# EAGLE library part PA_NUCLEO_BRD (library PatternAgents-Boards)
PatternAgents Nucleo Board Pattern Source LBR : http://www.patternagents.com Github : https://github.com/patternagents License : http://creativecommons.org/licenses/by-sa/4.0/ (Creative Commons 4.0) THIS SOFTWARE IS PROVIDED BY THE CONTRIBUTORS "AS IS" AND WITHOUT ANY EXPRESS OR IMPLIED WARRANTIES, INCLUDING, BUT NOT LIMITED TO, THE IMPLIED WARRANTIES OF MERCHANTABILITY AND FITNESS FOR A PARTICULAR PURPOSE ARE DISCLAIMED. IN NO EVENT SHALL THE COPYRIGHT OWNER OR CONTRIBUTORS BE LIABLE FOR ANY DIRECT, INDIRECT, INCIDENTAL, SPECIAL, EXEMPLARY, OR CONSEQUENTIAL DAMAGES (INCLUDING, BUT NOT LIMITED TO, PROCUREMENT OF SUBSTITUTE GOODS OR SERVICES; LOSS OF USE, DATA, OR PROFITS; OR BUSINESS INTERRUPTION) HOWEVER CAUSED AND ON ANY THEORY OF LIABILITY, WHETHER IN CONTRACT, STRICT LIABILITY, OR TORT (INCLUDING NEGLIGENCE OR OTHERWISE) ARISING IN ANY WAY OUT OF THE USE OF THIS SOFTWARE, EVEN IF ADVISED OF THE POSSIBILITY OF SUCH DAMAGE.
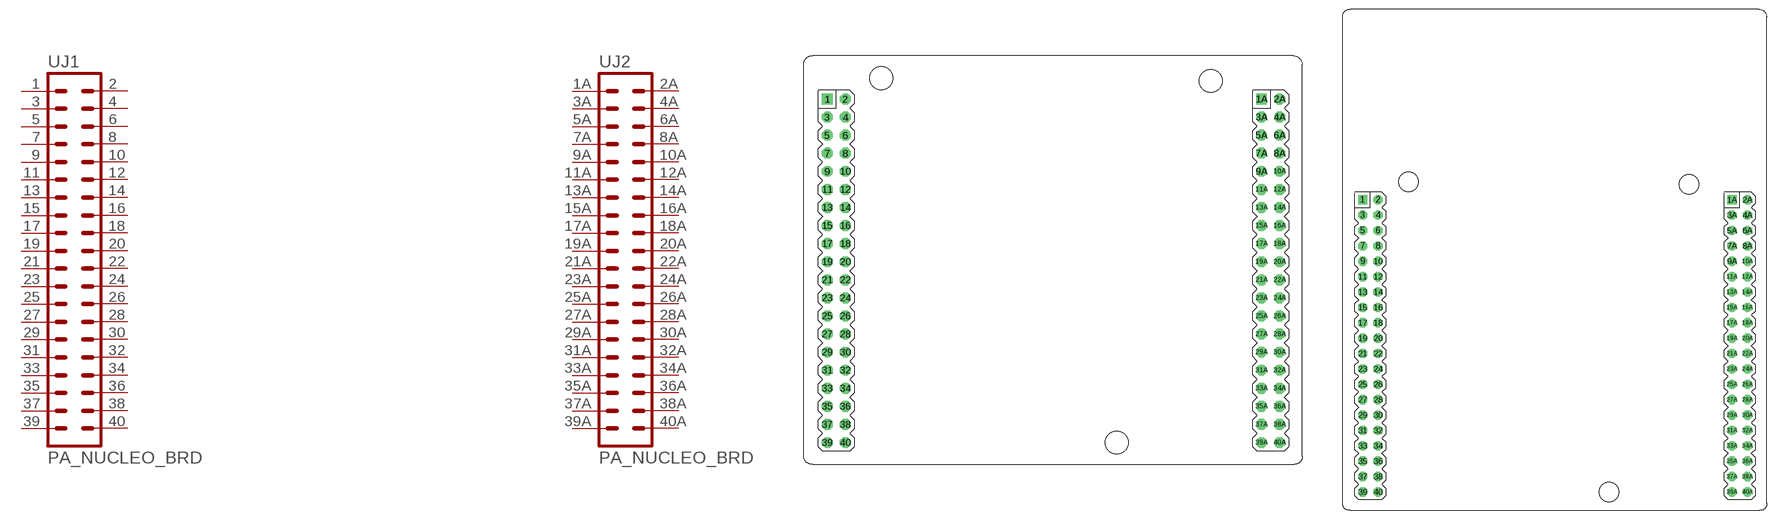
[diagram p9: symbol with the pads of PA_NUCLEO; footprints PA_NUCLEO, PA_NUCLEO_LRG]

Designator prefix -; gates J1=PA_NUCLEO J2=PA_NUCLEO

## PA_NUCLEO_BRD  [PA_NUCLEO]
1  J1:1  pas
1A  J2:1  pas
2  J1:2  pas
2A  J2:2  pas
3  J1:3  pas
3A  J2:3  pas
4  J1:4  pas
4A  J2:4  pas
5  J1:5  pas
5A  J2:5  pas
6  J1:6  pas
6A  J2:6  pas
7  J1:7  pas
7A  J2:7  pas
8  J1:8  pas
8A  J2:8  pas
9  J1:9  pas
9A  J2:9  pas
10  J1:10  pas
10A  J2:10  pas
11  J1:11  pas
11A  J2:11  pas
12  J1:12  pas
12A  J2:12  pas
13  J1:13  pas
13A  J2:13  pas
14  J1:14  pas
14A  J2:14  pas
15  J1:15  pas
15A  J2:15  pas
16  J1:16  pas
16A  J2:16  pas
17  J1:17  pas
17A  J2:17  pas
18  J1:18  pas
18A  J2:18  pas
19  J1:19  pas
19A  J2:19  pas
20  J1:20  pas
20A  J2:20  pas
21  J1:21  pas
21A  J2:21  pas
22  J1:22  pas
22A  J2:22  pas
23  J1:23  pas
23A  J2:23  pas
24  J1:24  pas
24A  J2:24  pas
25  J1:25  pas
25A  J2:25  pas
26  J1:26  pas
26A  J2:26  pas
27  J1:27  pas
27A  J2:27  pas
28  J1:28  pas
28A  J2:28  pas
29  J1:29  pas
29A  J2:29  pas
30  J1:30  pas
30A  J2:30  pas
31  J1:31  pas
31A  J2:31  pas
32  J1:32  pas
32A  J2:32  pas
33  J1:33  pas
33A  J2:33  pas
34  J1:34  pas
34A  J2:34  pas
35  J1:35  pas
35A  J2:35  pas
36  J1:36  pas
36A  J2:36  pas
37  J1:37  pas
37A  J2:37  pas
38  J1:38  pas
38A  J2:38  pas
39  J1:39  pas
39A  J2:39  pas
40  J1:40  pas
40A  J2:40  pas

## PA_NUCLEO_BRDLRG  [PA_NUCLEO_LRG]
Pads as for PA_NUCLEO

## Footprint PA_NUCLEO (pad centres in mm)
PatternAgents Nucleo Board Pattern Nucleo compatible board template - standard size (Uses more common 40 pin connector footprint - 2 extra pins per side) Source LBR : http://www.patternagents.com Github : https://github.com/patternagents License : http://creativecommons.org/licenses/by-sa/4.0/ (Creative Commons 4.0) THIS SOFTWARE IS PROVIDED BY THE CONTRIBUTORS "AS IS" AND WITHOUT ANY EXPRESS OR IMPLIED WARRANTIES, INCLUDING, BUT NOT LIMITED TO, THE IMPLIED WARRANTIES OF MERCHANTABILITY AND FITNESS FOR A PARTICULAR PURPOSE ARE DISCLAIMED. IN NO EVENT SHALL THE COPYRIGHT OWNER OR CONTRIBUTORS BE LIABLE FOR ANY DIRECT, INDIRECT, INCIDENTAL, SPECIAL, EXEMPLARY, OR CONSEQUENTIAL DAMAGES (INCLUDING, BUT NOT LIMITED TO, PROCUREMENT OF SUBSTITUTE GOODS OR SERVICES; LOSS OF USE, DATA, OR PROFITS; OR BUSINESS INTERRUPTION) HOWEVER CAUSED AND ON ANY THEORY OF LIABILITY, WHETHER IN CONTRACT, STRICT LIABILITY, OR TORT (INCLUDING NEGLIGENCE OR OTHERWISE) ARISING IN ANY WAY OUT OF THE USE OF THIS SOFTWARE, EVEN IF ADVISED OF THE POSSIBILITY OF SUCH DAMAGE.
drill 1.016 square: 1 3.302,51.308; 1A 64.262,51.308
drill 1.016 octagon: 2 5.842,51.308; 2A 66.802,51.308; 3 3.302,48.768; 3A 64.262,48.768; 4 5.842,48.768; 4A 66.802,48.768; 5 3.302,46.228; 5A 64.262,46.228; 6 5.842,46.228; 6A 66.802,46.228; 7 3.302,43.688; 7A 64.262,43.688; 8 5.842,43.688; 8A 66.802,43.688; 9 3.302,41.148; 9A 64.262,41.148; 10 5.842,41.148; 10A 66.802,41.148; 11 3.302,38.608; 11A 64.262,38.608; 12 5.842,38.608; 12A 66.802,38.608; 13 3.302,36.068; 13A 64.262,36.068; 14 5.842,36.068; 14A 66.802,36.068; 15 3.302,33.528; 15A 64.262,33.528; 16 5.842,33.528; 16A 66.802,33.528; 17 3.302,30.988; 17A 64.262,30.988; 18 5.842,30.988; 18A 66.802,30.988; 19 3.302,28.448; 19A 64.262,28.448; 20 5.842,28.448; 20A 66.802,28.448; 21 3.302,25.908; 21A 64.262,25.908; 22 5.842,25.908; 22A 66.802,25.908; 23 3.302,23.368; 23A 64.262,23.368; 24 5.842,23.368; 24A 66.802,23.368; 25 3.302,20.828; 25A 64.262,20.828; 26 5.842,20.828; 26A 66.802,20.828; 27 3.302,18.288; 27A 64.262,18.288; 28 5.842,18.288; 28A 66.802,18.288; 29 3.302,15.748; 29A 64.262,15.748; 30 5.842,15.748; 30A 66.802,15.748; 31 3.302,13.208; 31A 64.262,13.208; 32 5.842,13.208; 32A 66.802,13.208; 33 3.302,10.668; 33A 64.262,10.668; 34 5.842,10.668; 34A 66.802,10.668; 35 3.302,8.128; 35A 64.262,8.128; 36 5.842,8.128; 36A 66.802,8.128; 37 3.302,5.588; 37A 64.262,5.588; 38 5.842,5.588; 38A 66.802,5.588; 39 3.302,3.048; 39A 64.262,3.048; 40 5.842,3.048; 40A 66.802,3.048
hole 3.2 at 43.942,3.048
hole 3.2 at 57.15,53.848
hole 3.2 at 10.87,54.246

## Footprint PA_NUCLEO_LRG (pad centres in mm)
PatternAgents Nucleo Board Pattern (LARGE) Nucleo compatible board template - large size (Uses more common 40 pin connector footprint - 2 extra pins per side) Source LBR : http://www.patternagents.com Github : https://github.com/patternagents License : http://creativecommons.org/licenses/by-sa/4.0/ (Creative Commons 4.0) THIS SOFTWARE IS PROVIDED BY THE CONTRIBUTORS "AS IS" AND WITHOUT ANY EXPRESS OR IMPLIED WARRANTIES, INCLUDING, BUT NOT LIMITED TO, THE IMPLIED WARRANTIES OF MERCHANTABILITY AND FITNESS FOR A PARTICULAR PURPOSE ARE DISCLAIMED. IN NO EVENT SHALL THE COPYRIGHT OWNER OR CONTRIBUTORS BE LIABLE FOR ANY DIRECT, INDIRECT, INCIDENTAL, SPECIAL, EXEMPLARY, OR CONSEQUENTIAL DAMAGES (INCLUDING, BUT NOT LIMITED TO, PROCUREMENT OF SUBSTITUTE GOODS OR SERVICES; LOSS OF USE, DATA, OR PROFITS; OR BUSINESS INTERRUPTION) HOWEVER CAUSED AND ON ANY THEORY OF LIABILITY, WHETHER IN CONTRACT, STRICT LIABILITY, OR TORT (INCLUDING NEGLIGENCE OR OTHERWISE) ARISING IN ANY WAY OUT OF THE USE OF THIS SOFTWARE, EVEN IF ADVISED OF THE POSSIBILITY OF SUCH DAMAGE.
drill 1.016 square: 1 3.302,51.308; 1A 64.262,51.308
drill 1.016 octagon: 2 5.842,51.308; 2A 66.802,51.308; 3 3.302,48.768; 3A 64.262,48.768; 4 5.842,48.768; 4A 66.802,48.768; 5 3.302,46.228; 5A 64.262,46.228; 6 5.842,46.228; 6A 66.802,46.228; 7 3.302,43.688; 7A 64.262,43.688; 8 5.842,43.688; 8A 66.802,43.688; 9 3.302,41.148; 9A 64.262,41.148; 10 5.842,41.148; 10A 66.802,41.148; 11 3.302,38.608; 11A 64.262,38.608; 12 5.842,38.608; 12A 66.802,38.608; 13 3.302,36.068; 13A 64.262,36.068; 14 5.842,36.068; 14A 66.802,36.068; 15 3.302,33.528; 15A 64.262,33.528; 16 5.842,33.528; 16A 66.802,33.528; 17 3.302,30.988; 17A 64.262,30.988; 18 5.842,30.988; 18A 66.802,30.988; 19 3.302,28.448; 19A 64.262,28.448; 20 5.842,28.448; 20A 66.802,28.448; 21 3.302,25.908; 21A 64.262,25.908; 22 5.842,25.908; 22A 66.802,25.908; 23 3.302,23.368; 23A 64.262,23.368; 24 5.842,23.368; 24A 66.802,23.368; 25 3.302,20.828; 25A 64.262,20.828; 26 5.842,20.828; 26A 66.802,20.828; 27 3.302,18.288; 27A 64.262,18.288; 28 5.842,18.288; 28A 66.802,18.288; 29 3.302,15.748; 29A 64.262,15.748; 30 5.842,15.748; 30A 66.802,15.748; 31 3.302,13.208; 31A 64.262,13.208; 32 5.842,13.208; 32A 66.802,13.208; 33 3.302,10.668; 33A 64.262,10.668; 34 5.842,10.668; 34A 66.802,10.668; 35 3.302,8.128; 35A 64.262,8.128; 36 5.842,8.128; 36A 66.802,8.128; 37 3.302,5.588; 37A 64.262,5.588; 38 5.842,5.588; 38A 66.802,5.588; 39 3.302,3.048; 39A 64.262,3.048; 40 5.842,3.048; 40A 66.802,3.048
hole 3.2 at 43.942,3.048
hole 3.2 at 57.15,53.848
hole 3.2 at 10.87,54.246